# Altium schematic symbol library KA7805ERTF.SchLib: 1 symbol
Pins are listed as number, name and electrical type; pins without a type are passive.

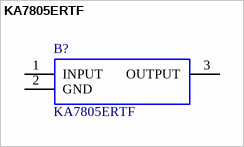
[diagram p0: symbol KA7805ERTF]

## KA7805ERTF
designator B?
IC, Fairchild, KA7805ERTF; Manufacturer_Name: ON Semiconductor; Geometry.Height: 2mm; Manufacturer_Part_Number: KA7805ERTF; RS Part Number: 8078809; RS Price/Stock: http://uk.rs-online.com/web/p/products/8078809; Arrow Part Number: KA7805ERTF; Arrow Price/Stock: https://www.arrow.com/en/products/ka7805ertf/on-semiconductor; Datasheet Link: http://www.onsemi.com/pub/Collateral/KA7824E-D.pdf
footprint KA7805ERTF
pins: 1 INPUT, 2 GND, 3 OUTPUT